# Altium footprint library nizn.PcbLib: 46 footprints (part 1 of 3)
Each footprint in its own frame and in the unit in brackets; x right, y up, seen from the top. Pads: shape width x height; smd on the part's side, far side on the other; paste and mask are expansions set on the pad; w line width, h text height; cw(c..) or ccw(c..) is an arc to the next point about the centre after c.
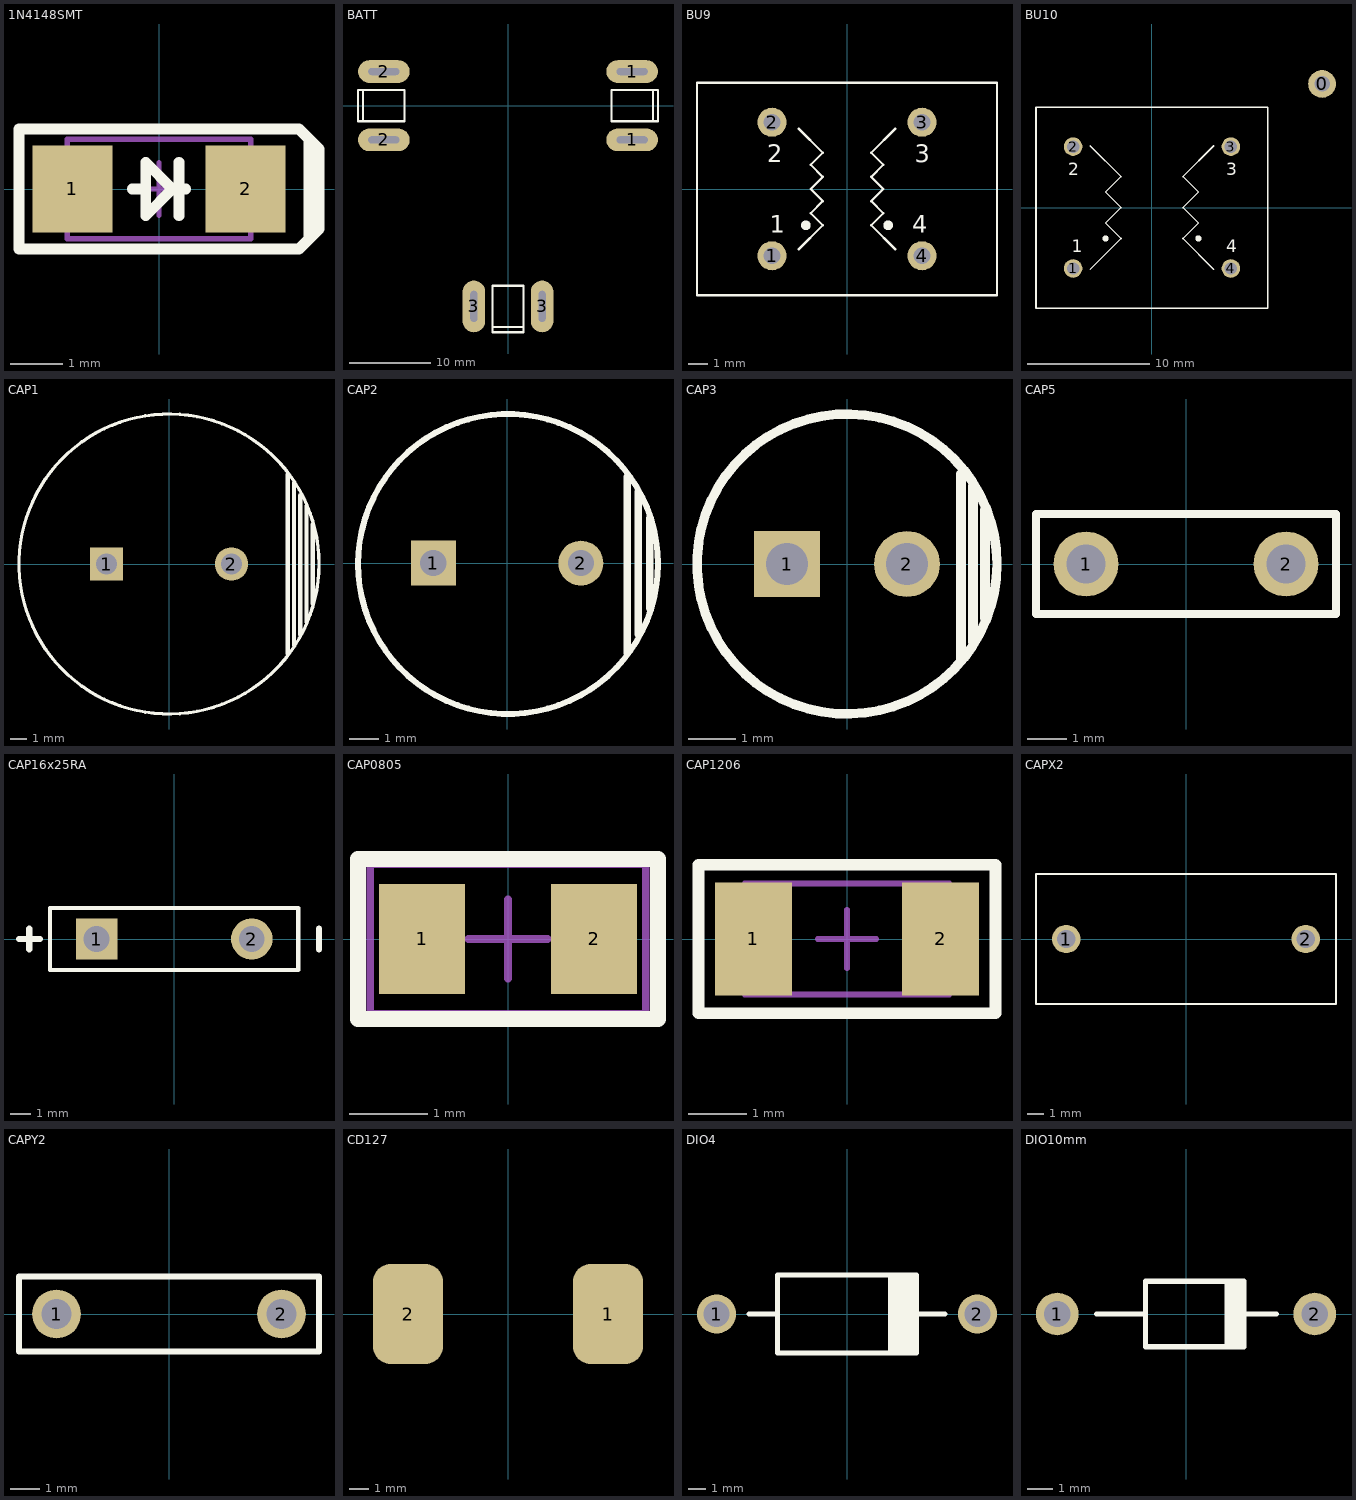
[diagram p0: the footprints below, top view; thin cyan lines are the x and y axes]

## 1N4148SMT [mil]
height 30
pads (2):
  rect 60x65 smd: 1(-65,0) 2(65,0)
Top Overlay:
  lines w8: -20,0 -10,0 ; 15,-20 15,20 ; 15,0 20,0 ; 112.5,-37.5 112.5,37.5 ; -105,-45 95,-45 105,-45 120,-30 120,30 105,45 95,45 -105,45 -105,-45 ; -10,-20 10,0 -10,20 -10,-20
Mechanical 15:
  lines w3.94: -19.68,0 19.69,0 ; 0,-19.68 0,19.69 ; -68.9,-37.4 -68.9,37.4 68.9,37.4 68.9,-37.4 -68.9,-37.4
3D body: height 57.54, standoff 0.46, extent -68.9,-28.09 68.9,29

## BATT [mil]
height 100
pads (6):
  oval 250x110 hole 33 slot 150 at 0 deg: 1(600,-165) 1(600,165) 2(-600,-165) 2(-600,165)
  oval 110x250 hole 33 slot 150 at 90 deg: 3(-165,-970) 3(165,-970)
Top Overlay:
  lines w10: -700,-75 -500,-75 -500,75 -700,75 ; -700,-75 -700,75 ; -700,-75 -725,-75 -725,75 -700,75 ; -75,-1070 75,-1070 ; -75,-1070 -75,-870 75,-870 75,-1070 ; -75,-1070 -75,-1095 75,-1095 75,-1070 ; 700,-75 725,-75 725,75 700,75 ; 700,-75 500,-75 500,75 700,75 ; 700,-75 700,75
3D body: height 20, standoff 0, extent 499.98,-100.02 700.02,105.02
3D body: height 20, standoff 0, extent -100.02,-1070.02 105.02,-869.98
3D body: height 20, standoff 0, extent -700.02,-105.02 -499.98,100.02
3D body: height 800, standoff 0, extent 675.02,-74.98 699.98,74.98
3D body: height 800, standoff 0, extent -74.98,-1069.98 74.98,-1045.02
3D body: height 800, standoff 0, extent -699.98,-74.98 -675.02,74.98

## BU9 [mil]
height 500
pads (4):
  round 60 hole 35: 1(-155,-138) 2(-155,138) 3(155,138) 4(155,-138)
Top Overlay:
  circle w10: c85,-75 r5
  circle w10: c-85,-75 r5
  lines w5: -100,-125 -50,-75 -75,-50 -50,-25 -75,0 -50,25 -75,50 -50,75 -100,125 ; 100,-125 50,-75 75,-50 50,-25 75,0 50,25 75,50 50,75 100,125 ; -310,-220 -310,220 310,220 310,-220 -310,-220
  text "3" at 140,55 h36
  text "2" at -165,55 h36
  text "4" at 135,-90 h36
  text "1" at -160,-90 h36
3D body: height 625.47, standoff -152.48, extent -311.02,-216.53 311.03,216.53

## BU10 [mil]
height 500
pads (5):
  round 90 hole 50: 0(550,400)
  round 60 hole 40: 1(-255,-197) 2(-255,197) 3(255,197) 4(255,-197)
Top Overlay:
  circle w10: c-150,-100 r5
  circle w10: c150,-100 r5
  lines w5: -200,-200 -100,-100 -150,-50 -100,0 -150,50 -100,100 -200,200 ; 200,-200 100,-100 150,-50 100,0 150,50 100,100 200,200 ; -375,-325 375,-325 375,325 -375,325 -375,-325
  text "1" at -260,-145 h40
  text "4" at 240,-145 h40
  text "2" at -270,105 h40
  text "3" at 240,105 h40
3D body: height 885.83, standoff -177.17, extent -372.83,-317.93 372.84,315.93

## CAP1 [mil]
height 1000
pads (2):
  rect 80x80 hole 50: 1(-150,0)
  round 80 hole 50: 2(150,0)
Top Overlay:
  circle w7.87: c0,0 r360
  lines w10: 285,-215 285,215 ; 300,-195 300,195 ; 315,-170 315,165 ; 330,-140 330,140 ; 345,-95 345,95
3D body: height 1304.29, standoff -251.22, extent -354.33,-354.32 354.72,354.34

## CAP2 [mil]
pads (2):
  rect 60x60 hole 35: 1(-98.43,0)
  round 60 hole 35: 2(98.43,0)
Top Overlay:
  circle w7.87: c1.19,-1.17 r200
  lines w10: 160,-120 160,115 ; 175,-95 175,95 ; 190,-60 190,60
3D body: height 565.12, standoff -175.83, extent -195.7,-197.24 198,196

## CAP3 [mil] "Capacitor, Electrolytic, Radial; Body 5 x 6.8 mm (Dia.xH typ); Pin Spacing 2 mm (typ)"
pads (2):
  rect 55x55 hole 35: 1(-50,0)
  round 55 hole 35: 2(50,0)
Top Overlay:
  circle w7.87: c0,0 r125.03
  lines w8: 95,-80 95,75 ; 105,-65 105,65 ; 115,-45 115,45
3D body: height 453.76, standoff -118.67, extent -125.03,-125.01 125,125.01

## CAP5 [mm] "Capacitor, Ceramic, High Voltage"
height 6
pads (2):
  round 1.65 hole 1: 1(-2.54,0) 2(2.54,0)
Top Overlay:
  lines w0.2: -3.81,-1.27 -3.81,1.27 3.81,1.27 3.81,-1.27 -3.81,-1.27
3D body: height 10.6, standoff -1.96, extent -4,-1.26 4,1.25

## CAP16x25RA [mil]
height 1000
pads (2):
  rect 80x80 hole 50: 1(-150,0)
  round 80 hole 50: 2(150,0)
Top Overlay:
  circle w1: c150,0 r15
  circle w1: c-150,0 r15
  lines w8: -240,-60 -240,60 240,60 240,-60 -240,-60
  lines w12: -300,0 -260,0 ; -280,-20 -280,20 ; 280,-20 280,20
3D body: height 500, standoff -30, extent 134.73,-15.27 165.27,15.27
3D body: height 500, standoff -30, extent -165.27,-15.27 -134.73,15.27
3D body: height 824.03, standoff 175.97, extent -323.93,-14.9 325,1122.9

## CAP0805 [mil]
height 30
pads (2):
  rect 43x55 smd: 1(-43,0) 2(43,0)
Top Overlay:
  lines w8: -75,-40 -75,40 75,40 75,-40 -75,-40
Mechanical 15:
  lines w3.94: -19.68,0 19.69,0 ; 0,-19.68 0,19.69 ; -68.9,-37.4 68.9,-37.4 68.9,37.4 -68.9,37.4 -68.9,-37.4
3D body: height 30.79, standoff 0, extent -39.36,-24.6 39.38,24.61

## CAP1206 [mil]
height 30
pads (2):
  rect 52x76 smd: 1(-63,0) 2(63,0)
Top Overlay:
  lines w8: -100,-50 100,-50 100,50 -100,50 -100,-50
Mechanical 15:
  lines w3.94: -19.68,0 19.69,0 ; 0,-19.68 0,19.69 ; -68.9,-37.4 68.9,-37.4 68.9,37.4 -68.9,37.4 -68.9,-37.4
3D body: height 39.45, standoff 0, extent -62.99,-31.49 63,31.51

## CAPX2 [mil]
height 500
pads (2):
  round 70 hole 45: 1(-295.28,0) 2(295.28,0)
Top Overlay:
  lines w5: -370,-160 370,-160 370,160 -370,160 -370,-160
3D body: height 636.5, standoff -150.91, extent -374.02,-157.48 374.02,157.49

## CAPY2 [mm] "Capacitor, Ceramic, High Voltage"
height 6
pads (2):
  round 1.65 hole 1: 1(-3.81,0) 2(3.81,0)
Top Overlay:
  lines w0.2: -5.08,-1.27 5.08,-1.27 5.08,1.27 -5.08,1.27 -5.08,-1.27
3D body: height 9.38, standoff -3.81, extent -4,-1.198 4.001,1.195

## CD127 [mil]
height 275.59
pads (2):
  rrect50% 140x200 smd: 1(200,0) 2(-200,0)
3D body: height 315.28, standoff 0.32, extent -246.06,-246.06 246.07,246.07

## DIO4 [mil]
height 200
pads (2):
  round 90 hole 60: 1(-300,0) 2(300,0)
Top Overlay:
  lines w12: -225,0 -160,0 ; 100,-90 100,90 ; 110,-90 110,90 ; 120,-90 120,90 ; 130,-90 130,90 ; 140,-90 140,90 ; 150,-90 150,90 ; 160,0 225,0 ; -160,-90 -160,90 160,90 160,-90 -160,-90
3D body: height 254.33, standoff -86.22, extent -320.86,-104.32 320.87,104.34

## DIO10mm [mil]
height 200
pads (2):
  round 65 hole 40: 1(-196.85,0) 2(196.85,0)
Top Overlay:
  lines w8: -136.85,0 -61.85,0 ; 63.15,-50 63.15,50 ; 68.15,-50 68.15,50 ; 73.15,-50 73.15,50 ; 78.15,-50 78.15,50 ; 83.15,-50 83.15,50 ; 88.15,0 138.15,0 ; -61.85,-50 -61.85,50 88.15,50 88.15,-50 -61.85,-50
3D body: height 126.26, standoff -78.54, extent -210.63,-51 210.63,51.52